# EAGLE library part 4SEG_IR_BUT_CONN (library Custom)
PIN HEADER
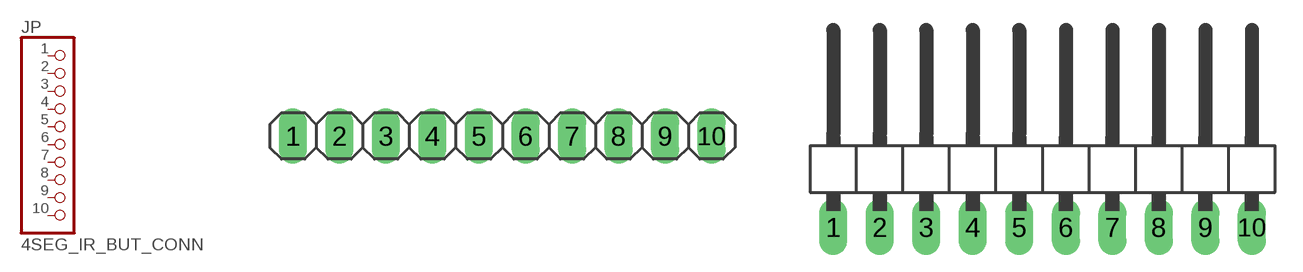
[diagram p46: symbol with the pads of 1X10; footprints 1X10, 1X10/90]

Designator prefix JP

## 4SEG_IR_BUT_CONN  [1X10]
1  GND  pas
2  VCC  pas
3  SW_EN  pas
4  SEG0_EN  pas
5  SEG1_EN  pas
6  SEG2_EN  pas
7  SEG3_EN  pas
8  CLK  pas
9  SER  pas
10  IR  pas

## 4SEG_IR_BUT_CONN/90  [1X10/90]
Pads as for 1X10

## Footprint 1X10 (pad centres in mm)
PIN HEADER
drill 1.016 long: 1 -11.43,0; 2 -8.89,0; 3 -6.35,0; 4 -3.81,0; 5 -1.27,0; 6 1.27,0; 7 3.81,0; 8 6.35,0; 9 8.89,0; 10 11.43,0

## Footprint 1X10/90 (pad centres in mm)
PIN HEADER
drill 1.016 long: 1 -11.43,-3.81; 2 -8.89,-3.81; 3 -6.35,-3.81; 4 -3.81,-3.81; 5 -1.27,-3.81; 6 1.27,-3.81; 7 3.81,-3.81; 8 6.35,-3.81; 9 8.89,-3.81; 10 11.43,-3.81